# EAGLE library part SD_ADAPTER (library sd_adapter)
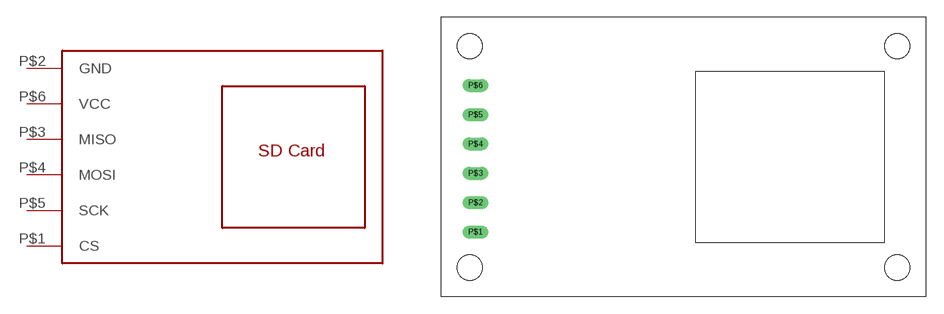
[diagram p0: symbol with the pads of DEBO_MICRO_SD; footprint DEBO_MICRO_SD]

Designator prefix -

## SD_ADAPTER  [DEBO_MICRO_SD]
P$1  CS
P$2  GND
P$3  MISO
P$4  MOSI
P$5  SCK
P$6  VCC

## Footprint DEBO_MICRO_SD (pad centres in mm)
drill 0.6 long: P$1 3,5.6; P$2 3.01,8.14; P$3 3,10.68; P$4 3,13.22; P$5 3,15.76; P$6 3,18.3
hole 2.2 at 2.5,2.5
hole 2.2 at 2.5,21.7
hole 2.2 at 39.5,21.7
hole 2.2 at 39.5,2.5